# EAGLE library part TC4422 (library PiB)
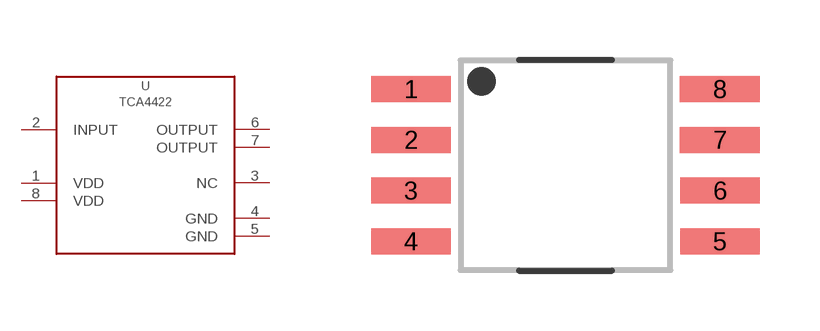
[diagram p4: symbol with the pads of 8-SOIC_TC4422; footprint 8-SOIC_TC4422]

Designator prefix -

## TC4422AVOA (CREATOR: Kenmei; DATASHEET: http://ww1.microchip.com/downloads/en/DeviceDoc/21946B.pdf; DIST: Digikey; DISTLINK: https://www.digikey.com/product-detail/en/microchip-technology/TC4422AVOA/TC4422AVOA-ND/857556; DISTPN: TC4422AVOA-ND; MFR: Microchip Technology; MPN: TC4422AVOA; TESTED: NO)  [8-SOIC_TC4422]
1  VDD  pwr
2  INPUT
3  NC  nc
4  GND  pwr
5  GND  pwr
6  OUTPUT  out
7  OUTPUT  out
8  VDD  pwr

## Footprint 8-SOIC_TC4422 (pad centres in mm)
smd 2 x 0.65: 1 -3.862,1.905; 2 -3.862,0.635; 3 -3.862,-0.635; 4 -3.862,-1.905; 7 3.862,0.635; 8 3.862,1.905
smd 1.981 x 0.65: 5 3.862,-1.905; 6 3.862,-0.635